# Altium schematic symbol library nixie-tubes.SCHLIB: 21 symbols
Pins are listed as number, name and electrical type; pins without a type are passive.

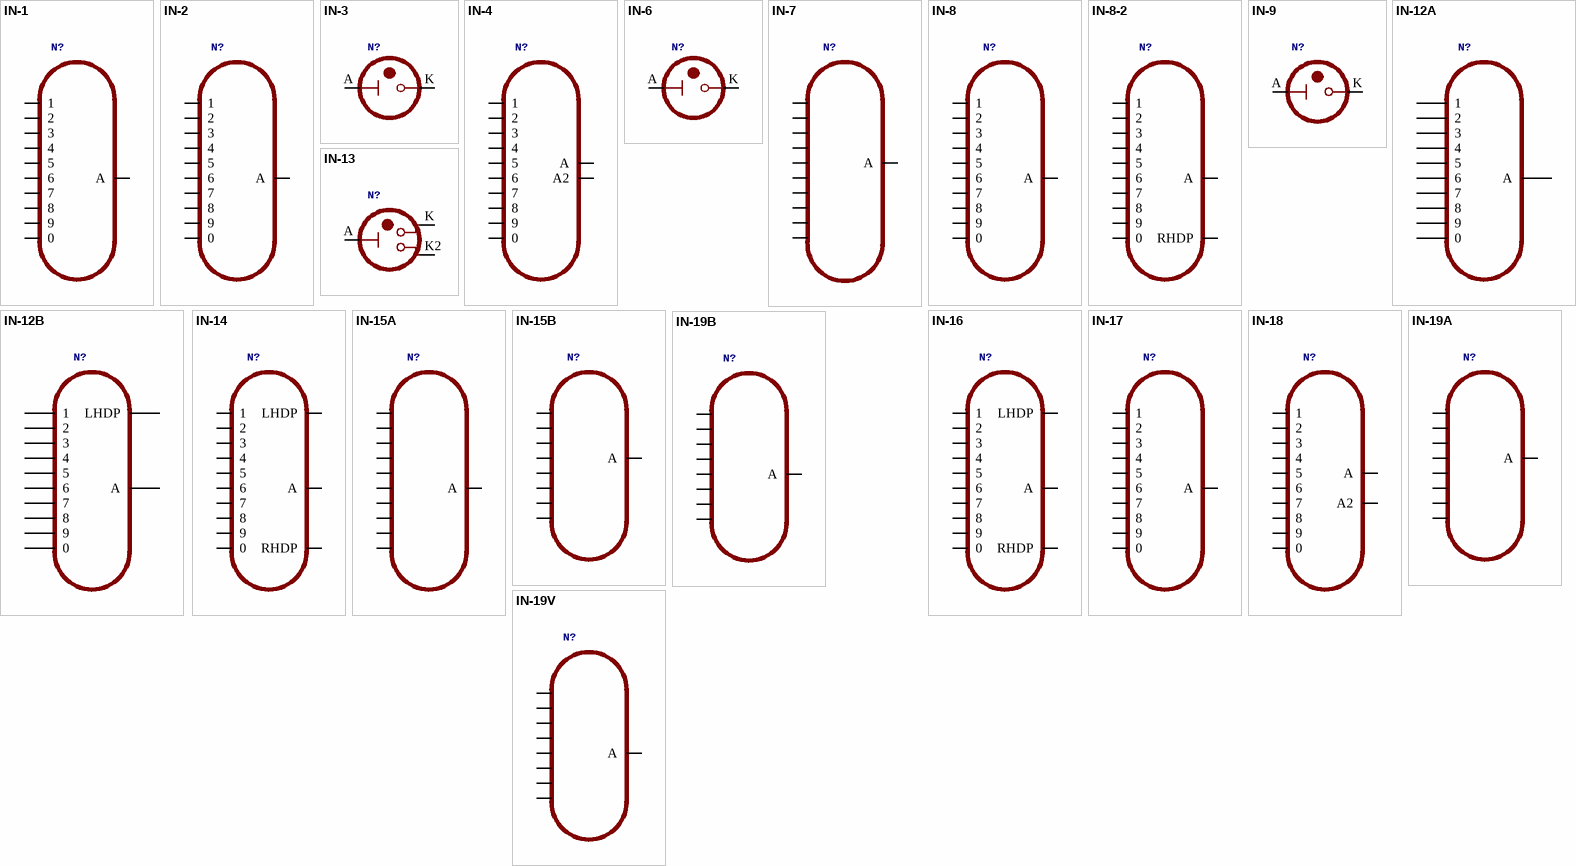
[diagram p0: symbols IN-1 to IN-19V]

## IN-1
designator N?, comment IN-1: large numeric topview nixie tube  (value not drawn)
GateName_1: G$1; SymbolName_1: IN-1; LibraryName: nixie-tubes; DeviceSetName: IN-1; Package: IN-1
footprint IN-1
pins: 0, 1, 2, 3, 4, 5, 6, 7, 8, 9, A

## IN-2
designator N?, comment IN-2: tiny numeric topview nixie tube  (value not drawn)
GateName_1: G$1; SymbolName_1: IN-2; LibraryName: nixie-tubes; DeviceSetName: IN-2; Package: IN-8
footprint IN-8
pins: 0, 1, 2, 3, 4, 5, 6, 7, 8, 9, A

## IN-3
designator N?, comment IN-3: nixie bulb  (value not drawn)
GateName_1: G$1; SymbolName_1: IN-3; LibraryName: nixie-tubes; DeviceSetName: IN-3; Package: IN-3
footprint IN-3
pins: A, K

## IN-4
designator N?, comment IN-4: large numeric topview nixie tube  (value not drawn)
GateName_1: G$1; SymbolName_1: IN-4; LibraryName: nixie-tubes; DeviceSetName: IN-4; Package: IN-18
footprint IN-18
pins: 0 A, 1 3, 2 A2, 4 6, 5 8, 6 9, 7, 8 2, 9 1, A2 5, N/C 4, N/C2 0

## IN-6
designator N?, comment IN-6: dual nixie bulb  (value not drawn)
GateName_1: G$1; SymbolName_1: IN-6; LibraryName: nixie-tubes; DeviceSetName: IN-6; Package: IN-6
footprint IN-6
pins: A, K

## IN-7
designator N?, comment IN-7: large symbol topview nixie tube  (value not drawn)
GateName_1: G$1; SymbolName_1: IN-7; LibraryName: nixie-tubes; DeviceSetName: IN-7; Package: IN-18
footprint IN-18
pins: 0 P$10, 1 P$1, 3 P$8, 4 A, 6 P$5, 7 P$6, 8 P$3, 9 P$7, A P$2, A2 P$9, N/C P$4

## IN-8
designator N?, comment IN-8: medium numeric frontview nixie tube  (value not drawn)
GateName_1: G$1; SymbolName_1: IN-8; LibraryName: nixie-tubes; DeviceSetName: IN-8; Package: IN-8
footprint IN-8
pins: 0, 1, 2, 3, 4, 5, 6, 7, 8, 9, A

## IN-8-2
designator N?, comment IN-8-2: medium numeric frontview nixie tube  (value not drawn)
GateName_1: G$1; SymbolName_1: IN-8-2; LibraryName: nixie-tubes; DeviceSetName: IN-8-2; Package: IN-8-2
footprint IN-8-2
pins: 0, 1, 2, 3, 4, 5, 6, 7, 8, 9, . RHDP, A

## IN-9
designator N?, comment IN-9: nixie bargraph  (value not drawn)
GateName_1: G$1; SymbolName_1: IN-9; LibraryName: nixie-tubes; DeviceSetName: IN-9; Package: IN-9
footprint IN-9
pins: A, K

## IN-12A
designator N?, comment IN-12A: medium numeric topview nixie tube  (value not drawn)
GateName_1: G$1; SymbolName_1: IN-12A; LibraryName: nixie-tubes; DeviceSetName: IN-12A; Package: IN-12
footprint IN-12
pins: 0, 1, 2, 3, 4, 5, 6, 7, 8, 9, A

## IN-12B
designator N?, comment IN-12B: medium numeric topview nixie tube  (value not drawn)
GateName_1: G$1; SymbolName_1: IN-12B; LibraryName: nixie-tubes; DeviceSetName: IN-12B; Package: IN-12
footprint IN-12
pins: 0, 1, 2, 3, 4, 5, 6, 7, 8, 9, A, LHDP

## IN-13
designator N?, comment IN-13: large nixie bargraph  (value not drawn)
GateName_1: G$1; SymbolName_1: IN-13; LibraryName: nixie-tubes; DeviceSetName: IN-13; Package: IN-13
footprint IN-13
pins: A, K, K2

## IN-14
designator N?, comment IN-14: medium numeric frontview nixie tube  (value not drawn)
GateName_1: G$1; SymbolName_1: IN-14; LibraryName: nixie-tubes; DeviceSetName: IN-14; Package: IN-14
footprint IN-14
pins: 0, 1, 2, 3, 4, 5, 6, 7, 8, 9, A, LHDP, RHDP

## IN-15A
designator N?, comment IN-15A: medium symbol topview nixie tube  (value not drawn)
GateName_1: G$1; SymbolName_1: IN-15A; LibraryName: nixie-tubes; DeviceSetName: IN-15A; Package: IN-12
footprint IN-12
pins: 0 P$10, 1 P$4, 2 P$3, 3 P$9, 4 P$5, 5 P$7, 6 P$6, 7 P$2, 8 P$1, 9 P$8, A

## IN-15B
designator N?, comment IN-15B: medium symbol topview nixie tube  (value not drawn)
GateName_1: G$1; SymbolName_1: IN-15B; LibraryName: nixie-tubes; DeviceSetName: IN-15B; Package: IN-12
footprint IN-12
pins: 0 P$1, 1 P$6, 2 P$8, 4 P$5, 5 P$4, 6 P$7, 7 P$3, 9 P$2, A

## IN-16
designator N?, comment IN-16: small numeric frontview nixie tube  (value not drawn)
GateName_1: G$1; SymbolName_1: IN-16; LibraryName: nixie-tubes; DeviceSetName: IN-16; Package: IN-16
footprint IN-16
pins: 0, 1, 2, 3, 4, 5, 6, 7, 8, 9, A, LHDP, RHDP

## IN-17
designator N?, comment IN-17: tiny numeric topview nixie tube  (value not drawn)
GateName_1: G$1; SymbolName_1: IN-17; LibraryName: nixie-tubes; DeviceSetName: IN-17; Package: IN-17
footprint IN-17
pins: 0, 1, 2, 3, 4, 5, 6, 7, 8, 9, A

## IN-18
designator N?, comment IN-18: large numeric frontview nixie tube  (value not drawn)
GateName_1: G$1; SymbolName_1: IN-18; LibraryName: nixie-tubes; DeviceSetName: IN-18; Package: IN-18
footprint IN-18
pins: 0, 1, 2, 3, 4, 5, 6, 7, 8, 9, A, A2

## IN-19A
designator N?, comment IN-19A: medium symbol frontview nixie tube  (value not drawn)
GateName_1: G$1; SymbolName_1: IN-19A; LibraryName: nixie-tubes; DeviceSetName: IN-19A; Package: IN-19
footprint IN-19
pins: 2 P$5, 4 P$6, 5 P$7, 6 P$8, 8 A, 10 P$2, 11 P$1, 12 P$3, 14 P$4

## IN-19B
designator N?, comment IN-19B: medium symbol frontview nixie tube  (value not drawn)
GateName_1: G$1; SymbolName_1: IN-19B; LibraryName: nixie-tubes; DeviceSetName: IN-19B; Package: IN-19
footprint IN-19
pins: 2 P$5, 4 P$6, 5 P$1, 6 P$8, 8 A, 10 P$7, 11 P$2, 12 P$3, 14 P$4

## IN-19V
designator N?, comment IN-19V: medium symbol frontview nixie tube  (value not drawn)
GateName_1: G$1; SymbolName_1: IN-19V; LibraryName: nixie-tubes; DeviceSetName: IN-19V; Package: IN-19
footprint IN-19
pins: 2 P$6, 4 P$3, 5 P$8, 6 P$7, 8 A, 10 P$1, 11 P$4, 12 P$2, 14 P$5